# EAGLE library part 10220-6212PC (library 3M_By_element14_Batch_1)
CONN MDR RECPT 20POS VERT T/H
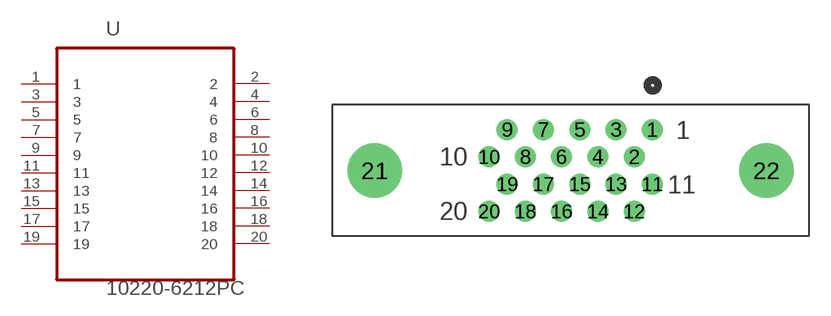
[diagram p2: symbol with the pads of 3M_10220-6212PC; footprint 3M_10220-6212PC]

Designator prefix U

## 10220-6212PC (MPN: 10220-6212PC; OC_FARNELL: 1260074; OC_NEWARK: 74K4076; PACKAGE: MDR RECPT 20POS VERT T/H; SUPPLIER: 3M)  [3M_10220-6212PC]
1  1  pas
2  2  pas
3  3  pas
4  4  pas
5  5  pas
6  6  pas
7  7  pas
8  8  pas
9  9  pas
10  10  pas
11  11  pas
12  12  pas
13  13  pas
14  14  pas
15  15  pas
16  16  pas
17  17  pas
18  18  pas
19  19  pas
20  20  pas

## Footprint 3M_10220-6212PC (pad centres in mm)
drill 0.965: 1 11.43,5.715; 2 10.16,3.81; 3 8.89,5.715; 4 7.62,3.81; 5 6.35,5.715; 6 5.08,3.81; 7 3.81,5.715; 8 2.54,3.81; 9 1.27,5.715; 10 0,3.81; 11 11.43,1.905; 12 10.16,0; 13 8.89,1.905; 14 7.62,0; 15 6.35,1.905; 16 5.08,0; 17 3.81,1.905; 18 2.54,0; 19 1.27,1.905; 20 0,0
drill 2.794: 21 -8.001,2.845; 22 19.431,2.845